# EAGLE library part ICM20609 (library main_controller)
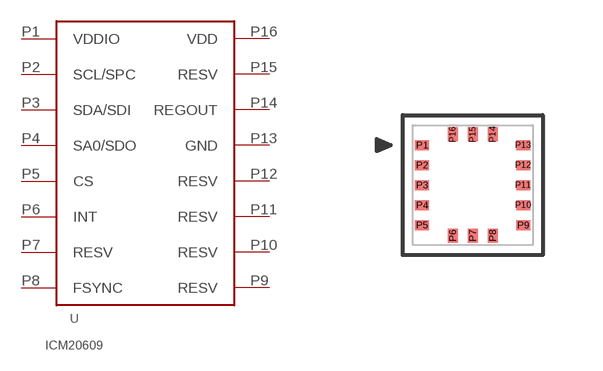
[diagram p5: symbol with the pads of ICM20609; footprint ICM20609]

Designator prefix U

## ICM20609 (MF: TDK InvenSense; MOUSER: 410-ICM-20609; MPN: ICM20609)  [ICM20609]
P1  VDDIO
P2  SCL/SPC
P3  SDA/SDI
P4  SA0/SDO
P5  CS
P6  INT
P7  RESV
P8  FSYNC
P9  RESV
P10  RESV
P11  RESV
P12  RESV
P13  GND
P14  REGOUT
P15  RESV
P16  VDD

## Footprint ICM20609 (pad centres in mm)
smd 0.35 x 0.25: P1 -1.265,1; P2 -1.265,0.5; P3 -1.265,0; P4 -1.265,-0.5; P5 -1.265,-1; P9 1.265,-1; P10 1.265,-0.5; P11 1.265,0; P12 1.265,0.5; P13 1.265,1
smd 0.25 x 0.35: P6 -0.5,-1.265; P7 0,-1.265; P8 0.5,-1.265; P14 0.5,1.265; P15 0,1.265; P16 -0.5,1.265